# Altium schematic symbol library GNSS_Parts.SchLib: 9 symbols
Pins are listed as number, name and electrical type; pins without a type are passive.

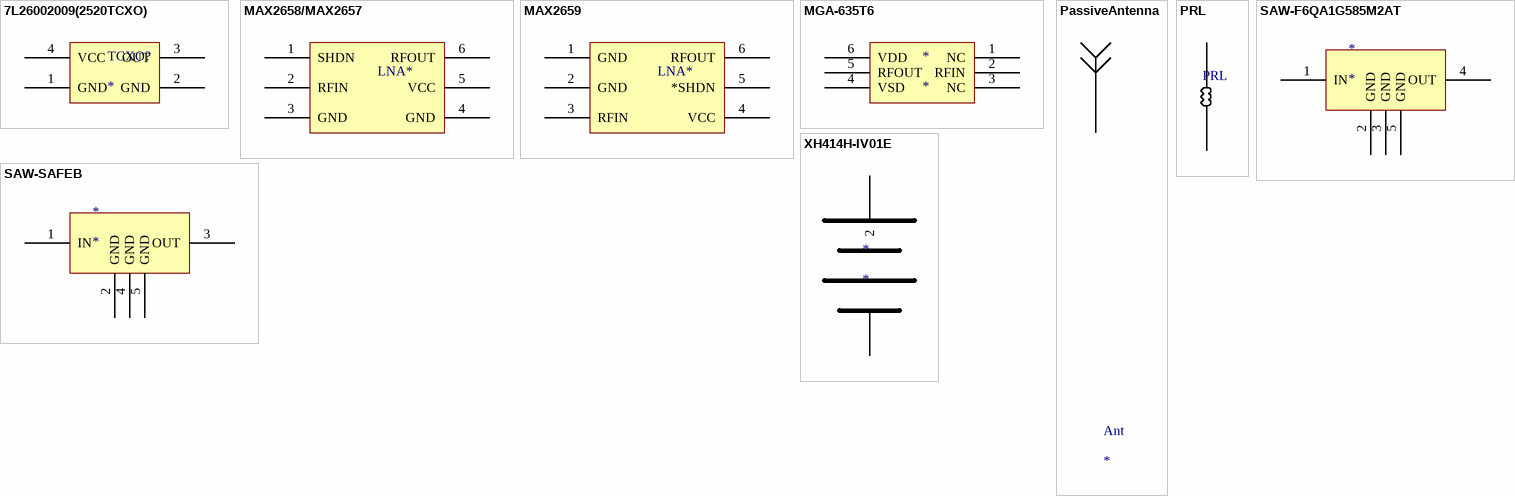
[diagram p0: symbols 7L26002009(2520TCXO) to XH414H-IV01E]

## 7L26002009(2520TCXO)
designator TCXO?
footprint 2520_TCXO
pins: 1 GND, 2 GND, 3 OUT, 4 VCC

## MAX2658/MAX2657
designator LNA*  (value not drawn)
footprint MAX2657/MAX2658
pins: 1 SHDN, 2 RFIN, 3 GND, 4 GND, 5 VCC, 6 RFOUT

## MAX2659
designator LNA*  (value not drawn)
footprint MAX2659
pins: 1 GND, 2 GND, 3 RFIN, 4 VCC, 5 *SHDN, 6 RFOUT

## MGA-635T6
designator *
footprint 6UTSLP
pins: 1 NC, 2 RFIN, 3 NC, 4 VSD, 5 RFOUT, 6 VDD

## PassiveAntenna
designator Ant
footprint passive25x25
pins: 1

## PRL
designator PRL, comment *nH  (value not drawn)
footprint 0402
pins: 1, 2

## SAW-F6QA1G585M2AT
designator *
footprint Saw5pin
pins: 1 IN, 2 GND, 3 GND, 4 OUT, 5 GND

## SAW-SAFEB
designator *
footprint SAFEB1G57KE0
pins: 1 IN, 2 GND, 3 OUT, 4 GND, 5 GND

## XH414H-IV01E
designator *
footprint XH414H-IV01E
pins: 1, 2